# EAGLE library part BASICX24 (library BasicX_Chips)
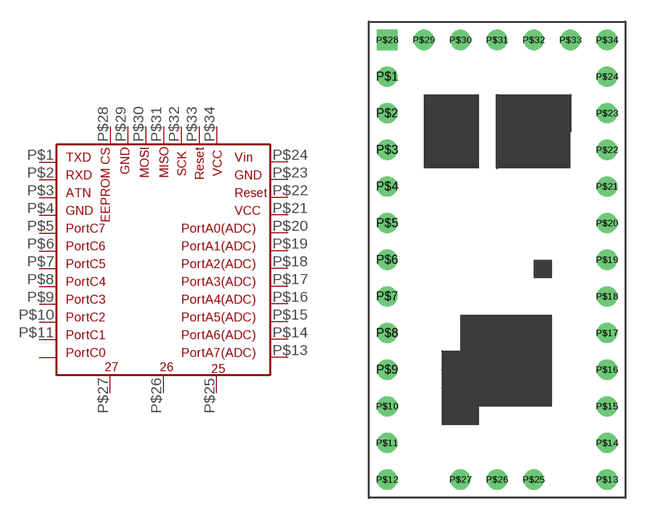
[diagram p0: symbol with the pads of PDIP-24; footprint PDIP-24]

Designator prefix -

## BASICX24  [PDIP-24]
P$1  P$1  out
P$2  P$2  in
P$3  P$3
P$4  P$4  sup
P$5  P$5
P$6  P$6
P$7  P$7
P$8  P$8
P$9  P$9
P$10  P$10
P$11  P$11
P$12  P$12
P$13  P$13
P$14  P$14
P$15  P$15
P$16  P$16
P$17  P$17
P$18  P$18
P$19  P$19
P$20  P$20
P$21  P$21  pwr
P$22  P$22  in
P$23  P$23  sup
P$24  P$24  pwr
P$25  P$25
P$26  P$26
P$27  P$27
P$28  P$28  in
P$29  P$29  sup
P$30  P$30  out
P$31  P$31  in
P$32  P$32
P$33  P$33  in
P$34  P$34  pwr

## Footprint PDIP-24 (pad centres in mm)
drill 0.813 pad 1.397 round: P$1 1.27,-3.81; P$2 1.27,-6.35; P$3 1.27,-8.89; P$4 1.27,-11.43; P$5 1.27,-13.97; P$6 1.27,-16.51; P$7 1.27,-19.05; P$8 1.27,-21.59; P$9 1.27,-24.13; P$10 1.27,-26.67; P$11 1.27,-29.21; P$12 1.27,-31.75; P$13 16.51,-31.75; P$14 16.51,-29.21; P$15 16.51,-26.67; P$16 16.51,-24.13; P$17 16.51,-21.59; P$18 16.51,-19.05; P$19 16.51,-16.51; P$20 16.51,-13.97; P$21 16.51,-11.43; P$22 16.51,-8.89; P$23 16.51,-6.35; P$24 16.51,-3.81; P$25 11.43,-31.75; P$26 8.89,-31.75; P$27 6.35,-31.75; P$29 3.81,-1.27; P$30 6.35,-1.27; P$31 8.89,-1.27; P$32 11.43,-1.27; P$33 13.97,-1.27; P$34 16.51,-1.27
drill 0.813 pad 1.397 square: P$28 1.27,-1.27